# EAGLE library part SG3525 (library wheat)
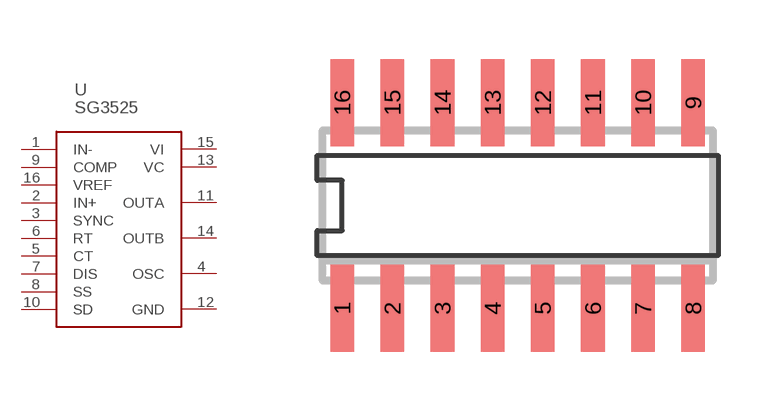
[diagram p175: symbol with the pads of SO16; footprint SO16]

Designator prefix U

## SG3525AP  [SO16]
1  IN-
2  IN+
3  SYNC
4  OSC
5  CT
6  RT
7  DIS
8  SS
9  COMP
10  SD
11  OUTA
12  GND
13  VC
14  OUTB
15  VI
16  VREF

## Footprint SO16 (pad centres in mm)
SO16, NARROW
smd 0.6 x 2.2: 1 -3.81,-2.6; 2 -2.54,-2.6; 3 -1.27,-2.6; 4 0,-2.6; 5 1.27,-2.6; 6 2.54,-2.6; 7 3.81,-2.6; 8 5.08,-2.6; 9 5.08,2.6; 10 3.81,2.6; 11 2.54,2.6; 12 1.27,2.6; 13 0,2.6; 14 -1.27,2.6; 15 -2.54,2.6; 16 -3.81,2.6